# EAGLE library part CY7C1069AV33B (library memory-sram)
2M x 8 Static RAM Source: CYPRESS cy7c1069av33_8.pdf
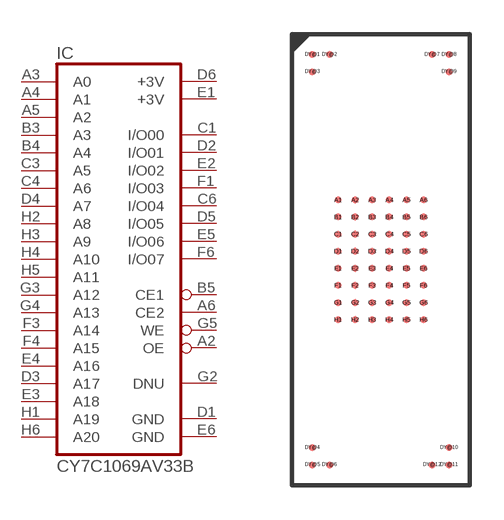
[diagram p8: symbol with the pads of FBGA60-8X20; footprint FBGA60-8X20]

Designator prefix IC

## CY7C1069AV33B  [FBGA60-8X20]
A2  OE  in
A3  A0  in
A4  A1  in
A5  A2  in
A6  CE2  in
B3  A3  in
B4  A4  in
B5  CE1  in
C1  I/O00
C3  A5  in
C4  A6  in
C6  I/O04
D1  GND  pwr
D2  I/O01
D3  A17  in
D4  A7  in
D5  I/O05
D6  +3V  pwr
E1  +3V  pwr
E2  I/O02
E3  A18  in
E4  A16  in
E5  I/O06
E6  GND  pwr
F1  I/O03
F3  A14  in
F4  A15  in
F6  I/O07
G2  DNU  pas
G3  A12  in
G4  A13  in
G5  WE  in
H1  A19  in
H2  A8  in
H3  A9  in
H4  A10  in
H5  A11  in
H6  A20  in

## Footprint FBGA60-8X20 (pad centres in mm)
60-ball FBGA (8 mm x 20 mm x 1.2 mm) (51-85162) Source: CYPRESS cy7c1069av33_8.pdf
smd 0.3 x 0.3: A1 -1.875,2.625; A2 -1.125,2.625; A3 -0.375,2.625; A4 0.375,2.625; A5 1.125,2.625; A6 1.875,2.625; B1 -1.875,1.875; B2 -1.125,1.875; B3 -0.375,1.875; B4 0.375,1.875; B5 1.125,1.875; B6 1.875,1.875; C1 -1.875,1.125; C2 -1.125,1.125; C3 -0.375,1.125; C4 0.375,1.125; C5 1.125,1.125; C6 1.875,1.125; D1 -1.875,0.375; D2 -1.125,0.375; D3 -0.375,0.375; D4 0.375,0.375; D5 1.125,0.375; D6 1.875,0.375; DY@1 -3,9; DY@2 -2.25,9; DY@3 -3,8.25; DY@4 -3,-8.25; DY@5 -3,-9; DY@6 -2.25,-9; DY@7 2.25,9; DY@8 3,9; DY@9 3,8.25; DY@10 3,-8.25; DY@11 3,-9; DY@12 2.25,-9; E1 -1.875,-0.375; E2 -1.125,-0.375; E3 -0.375,-0.375; E4 0.375,-0.375; E5 1.125,-0.375; E6 1.875,-0.375; F1 -1.875,-1.125; F2 -1.125,-1.125; F3 -0.375,-1.125; F4 0.375,-1.125; F5 1.125,-1.125; F6 1.875,-1.125; G1 -1.875,-1.875; G2 -1.125,-1.875; G3 -0.375,-1.875; G4 0.375,-1.875; G5 1.125,-1.875; G6 1.875,-1.875; H1 -1.875,-2.625; H2 -1.125,-2.625; H3 -0.375,-2.625; H4 0.375,-2.625; H5 1.125,-2.625; H6 1.875,-2.625